# Altium integrated library Microchip PIC16 Part 1.IntLib: 1800 symbols (part 80 of 93)
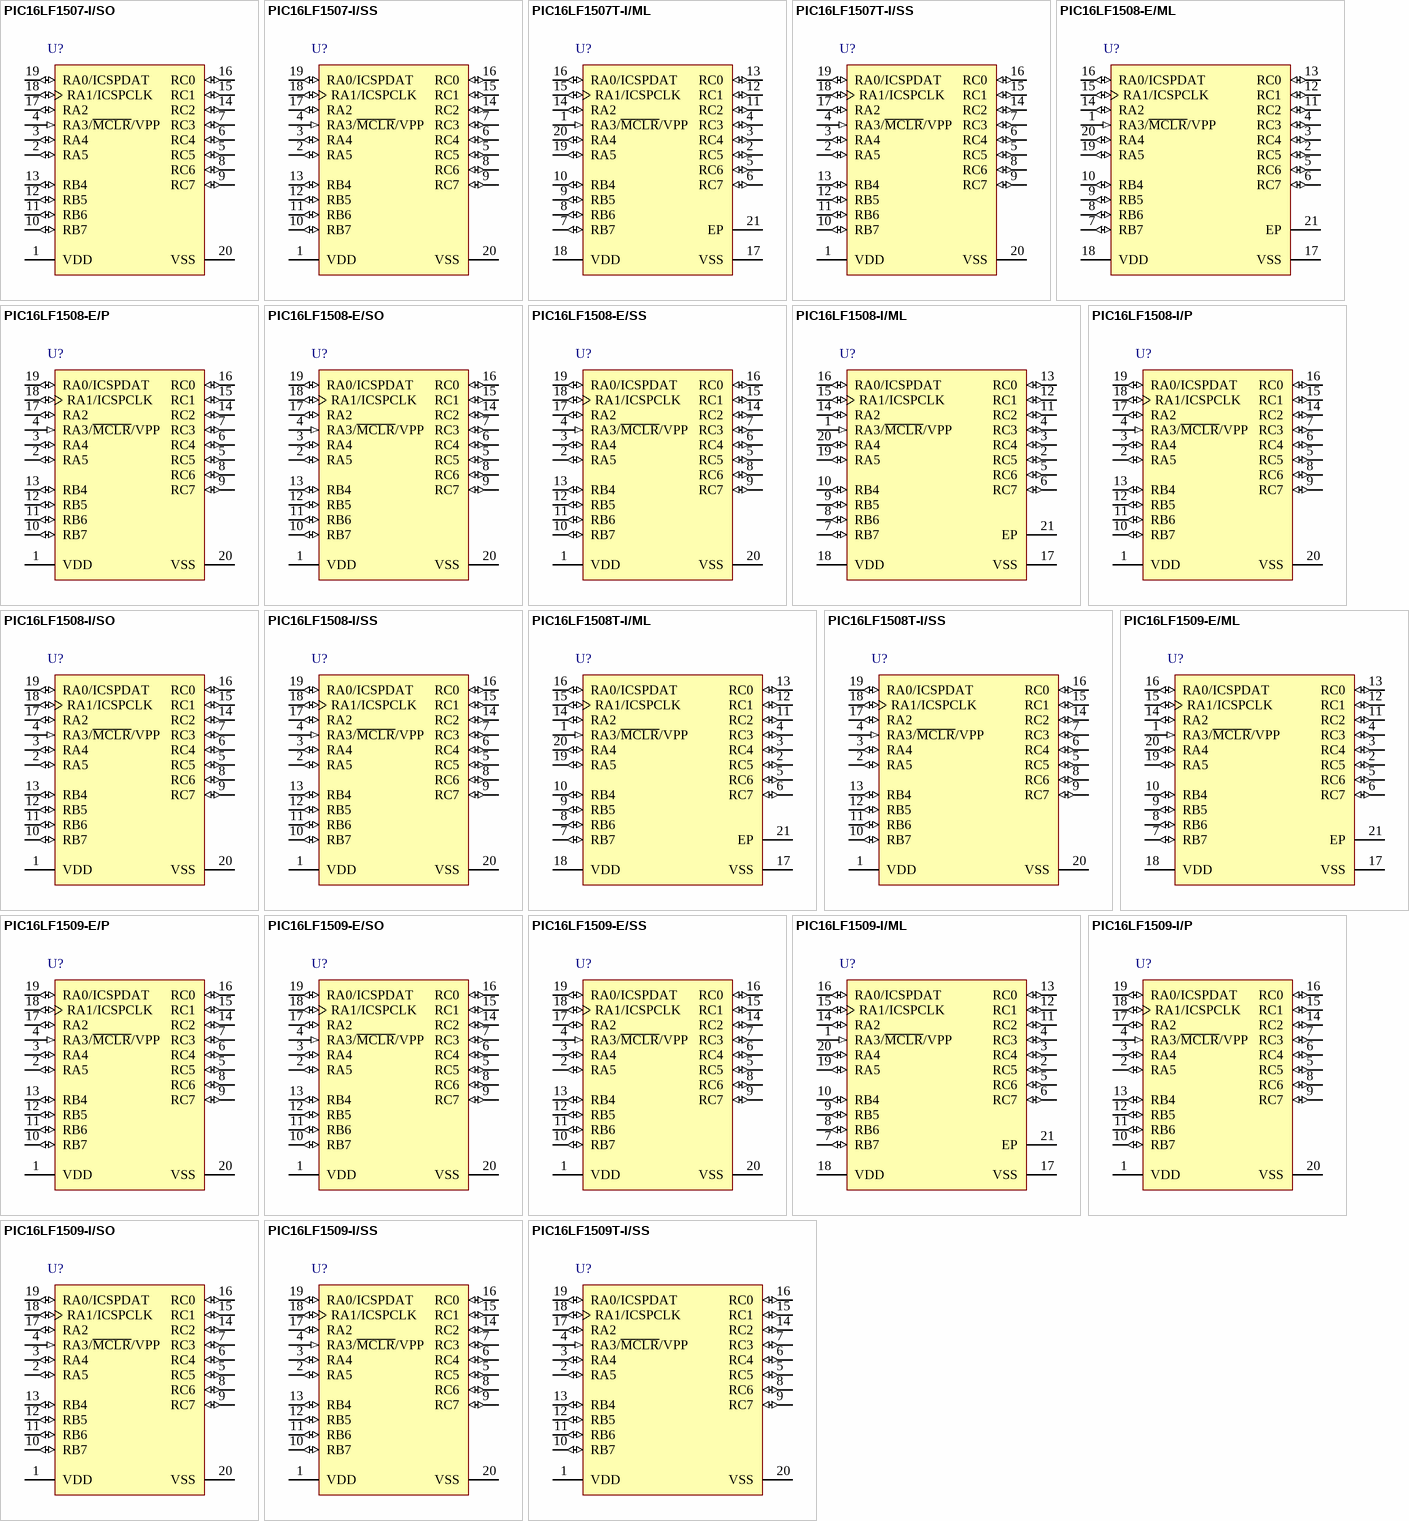
[diagram p178: symbols PIC16LF1507-I/SO to PIC16LF1509T-I/SS]

## PIC16LF1509-I/SS
designator U?
Flash, 8-Bit Microcontroller with nanoWatt XLP Technology, 20 MHz, 17 I/O, -40 to 85 degC, 20-pin SSOP (SS20), Tube; Manufacturer: Microchip; PartNumber: PIC16LF1509-I/SS; # of A/D Channels: 12; Digital Communication: 1 -A/E/USART, 1 -MSSP(SPI/I2C); I/O Pins: 17; Internal Oscillator: 16 MHz, 31 kHz; Max. CPU Speed MHz: 20; Operation Voltage Range: 1.8V - 3.6V; Program Memory KBytes: 14; Program Memory KWords: 8; RAM: 512; Timers: 2 - 8-bit, 1 - 16-bit, 0 - 32-bit; DatasheetVersion: Rev. A; PackageVersion: C04-072B, 12/2012; PackageReference: SSOP-SS20; PackageDescription: 20-Lead Plastic Shrink Small Outline, 5.3 x 7.2 mm Body, 0.65 mm Pitch; Supplier 1: Digi-Key; Supplier Part Number 1: PIC16LF1509-I/SS-ND; Supplier 2: Farnell; Supplier Part Number 2: 2085029; Supplier 3: Newark; Supplier Part Number 3: 64T1073; Supplier 4: Mouser; Supplier Part Number 4: 579-PIC16LF1509-I/SS; Memory Type: Flash; Packing: TUBE; Mounting Technology: Surface Mount; ComponentLink1Description: Datasheet; ComponentLink1URL: http://ww1.microchip.com/downloads/en/DeviceDoc/41609A.pdf; ComponentLink2Description: Package Specification; ComponentLink2URL: http://www.microchip.com/stellent/groups/techpub_sg/documents/packagingspec/en012702.pdf; ComponentLink3Description: URL Link1; ComponentLink3URL: Product URL:http://www.microchip.com/datasheet/PIC16F1509
footprint MCHP-SSOP-SS20_N (SOP, 20-Leads, Body 7.2x5.3mm, Pitch 0.65mm, IPC Medium Density)
footprint MCHP-SSOP-SS20_L (SOP, 20-Leads, Body 7.2x5.3mm, Pitch 0.65mm, IPC High Density)
footprint MCHP-SSOP-SS20_M (SOP, 20-Leads, Body 7.2x5.3mm, Pitch 0.65mm, IPC Low Density)
pins: 1 VDD (power) "Positive supply.", 2 RA5 (io), 3 RA4 (io), 4 RA3/~{MCLR}/VPP (in), 5 RC5 (io), 6 RC4 (io), 7 RC3 (io), 8 RC6 (io), 9 RC7 (io), 10 RB7 (io), 11 RB6 (io), 12 RB5 (io), 13 RB4 (io), 14 RC2 (io), 15 RC1 (io), 16 RC0 (io), 17 RA2 (io), 18 RA1/ICSPCLK (io), 19 RA0/ICSPDAT (io), 20 VSS (power) "Ground reference."

## PIC16LF1509T-I/SS
designator U?
Flash, 8-Bit Microcontroller with nanoWatt XLP Technology, 20 MHz, 17 I/O, -40 to 85 degC, 20-pin SSOP (SS20), Tape and Reel; Manufacturer: Microchip; PartNumber: PIC16LF1509T-I/SS; # of A/D Channels: 12; Digital Communication: 1 -A/E/USART, 1 -MSSP(SPI/I2C); I/O Pins: 17; Internal Oscillator: 16 MHz, 31 kHz; Max. CPU Speed MHz: 20; Operation Voltage Range: 1.8V - 3.6V; Packing: T/R; Program Memory KBytes: 14; Program Memory KWords: 8; RAM: 512; Timers: 2 - 8-bit, 1 - 16-bit, 0 - 32-bit; DatasheetVersion: Rev. A; PackageVersion: C04-072B, 12/2012; PackageReference: SSOP-SS20; PackageDescription: 20-Lead Plastic Shrink Small Outline, 5.3 x 7.2 mm Body, 0.65 mm Pitch; Supplier 1: Digi-Key; Supplier Part Number 1: PIC16LF1509T-I/SS-ND; Supplier 2: Mouser; Supplier Part Number 2: 579-PIC16LF1509TI/SS; Memory Type: Flash; Mounting Technology: Surface Mount; ComponentLink1Description: Datasheet; ComponentLink1URL: http://ww1.microchip.com/downloads/en/DeviceDoc/41609A.pdf; ComponentLink2Description: Package Specification; ComponentLink2URL: http://www.microchip.com/stellent/groups/techpub_sg/documents/packagingspec/en012702.pdf; ComponentLink3Description: URL Link1; ComponentLink3URL: Product URL:http://www.microchip.com/datasheet/PIC16F1509
footprint MCHP-SSOP-SS20_N (SOP, 20-Leads, Body 7.2x5.3mm, Pitch 0.65mm, IPC Medium Density)
footprint MCHP-SSOP-SS20_L (SOP, 20-Leads, Body 7.2x5.3mm, Pitch 0.65mm, IPC High Density)
footprint MCHP-SSOP-SS20_M (SOP, 20-Leads, Body 7.2x5.3mm, Pitch 0.65mm, IPC Low Density)
pins: 1 VDD (power) "Positive supply.", 2 RA5 (io), 3 RA4 (io), 4 RA3/~{MCLR}/VPP (in), 5 RC5 (io), 6 RC4 (io), 7 RC3 (io), 8 RC6 (io), 9 RC7 (io), 10 RB7 (io), 11 RB6 (io), 12 RB5 (io), 13 RB4 (io), 14 RC2 (io), 15 RC1 (io), 16 RC0 (io), 17 RA2 (io), 18 RA1/ICSPCLK (io), 19 RA0/ICSPDAT (io), 20 VSS (power) "Ground reference."

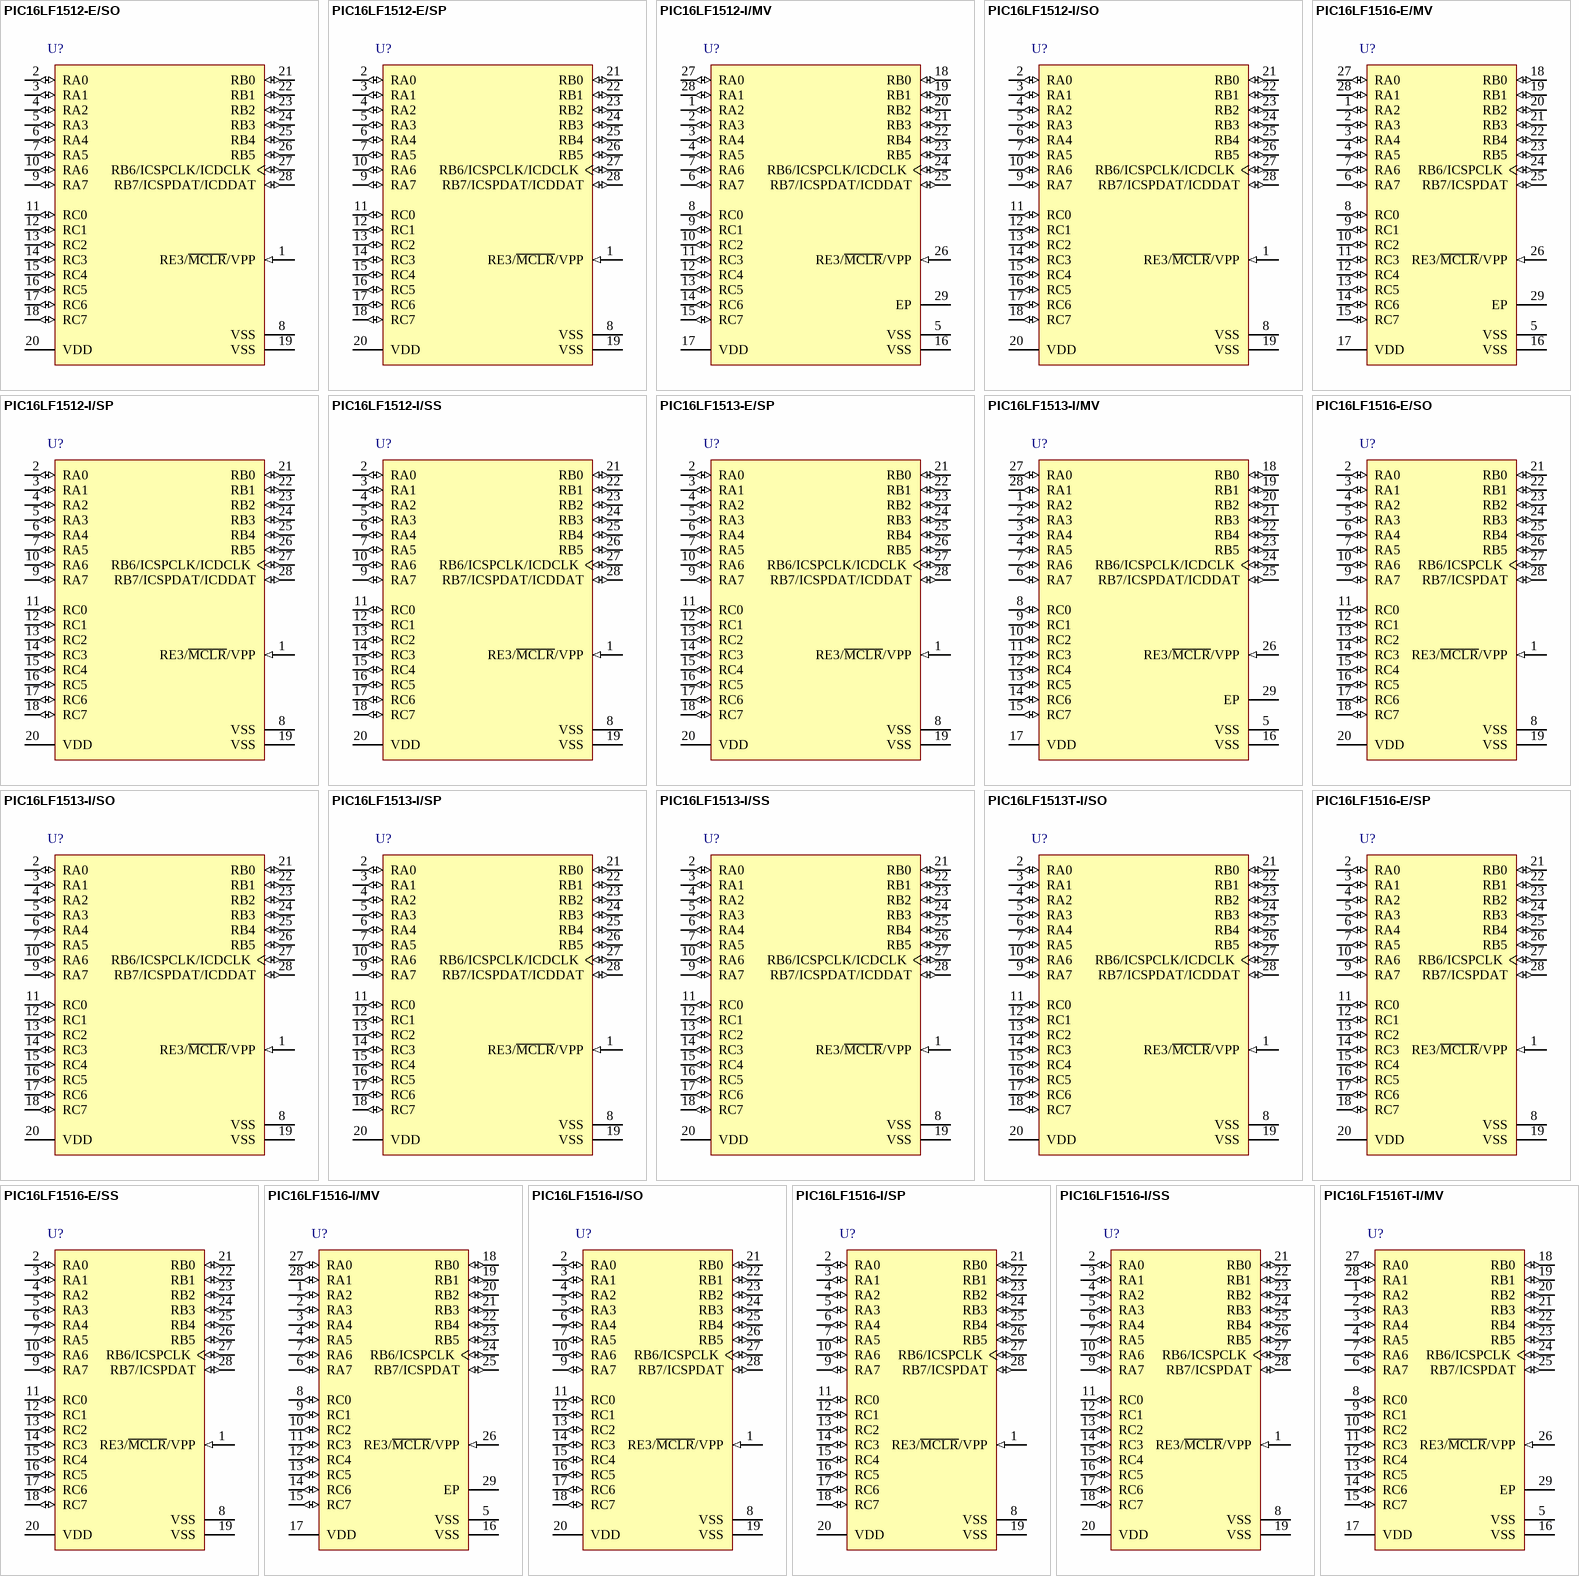
[diagram p83: symbols PIC16LF1512-E/SO to PIC16LF1516T-I/MV]

## PIC16LF1512-E/SO
designator U?
Flash Microcontroller with XLP Technology, 20 MHz, 24 I/O, -40 to 125 degC, 28-pin SOIC (SO28), Tube; Manufacturer: Microchip; PartNumber: PIC16LF1512-E/SO; # of A/D Channels: 17; Digital Communication: 1 -A/E/USART, 1 -MSSP(SPI/I2C); I/O Pins: 24; Internal Oscillator: 16 MHz, 31 kHz; Max. CPU Speed MHz: 20; Operation Voltage Range: 1.8V - 3.6V; Program Memory KBytes: 3.5; Program Memory KWords: 2; RAM: 128; Timers: 2 - 8-bit, 1 - 16-bit, 0 - 32-bit; DatasheetVersion: Rev. B; PackageVersion: C04-052C, 12/2012; PackageReference: SOIC-SO28; PackageDescription: 28-Lead Plastic Small Outline, 17.9 x 7.5 mm Body, 1.27 mm Pitch; Supplier 1: Digi-Key; Supplier Part Number 1: PIC16LF1512-E/SO-ND; Supplier 2: Mouser; Supplier Part Number 2: 579-PIC16LF1512-E/SO; Memory Type: Flash; Packing: TUBE; Mounting Technology: Surface Mount; ComponentLink1Description: Datasheet; ComponentLink1URL: http://ww1.microchip.com/downloads/en/DeviceDoc/41624B.pdf; ComponentLink2Description: Package Specification; ComponentLink2URL: http://www.microchip.com/stellent/groups/techpub_sg/documents/packagingspec/en012702.pdf; ComponentLink3Description: URL Link1; ComponentLink3URL: Product URL:http://www.microchip.com/datasheet/PIC16F1512
footprint MCHP-SOIC-SO28_N (SOIC, 28-Leads, Body 17.9x7.5mm, Pitch 1.27mm, IPC Medium Density)
footprint MCHP-SOIC-SO28_L (SOIC, 28-Leads, Body 17.9x7.5mm, Pitch 1.27mm, IPC High Density)
footprint MCHP-SOIC-SO28_M (SOIC, 28-Leads, Body 17.9x7.5mm, Pitch 1.27mm, IPC Low Density)
pins: 1 RE3/~{MCLR}/VPP (in), 2 RA0 (io), 3 RA1 (io), 4 RA2 (io), 5 RA3 (io), 6 RA4 (io), 7 RA5 (io), 8 VSS (power) "Ground reference.", 9 RA7 (io), 10 RA6 (io), 11 RC0 (io), 12 RC1 (io), 13 RC2 (io), 14 RC3 (io), 15 RC4 (io), 16 RC5 (io), 17 RC6 (io), 18 RC7 (io), 19 VSS (power) "Ground reference.", 20 VDD (power) "Positive supply.", 21 RB0 (io), 22 RB1 (io), 23 RB2 (io), 24 RB3 (io), 25 RB4 (io), 26 RB5 (io), 27 RB6/ICSPCLK/ICDCLK (io), 28 RB7/ICSPDAT/ICDDAT (io)

## PIC16LF1512-E/SP
designator U?
Flash Microcontroller with XLP Technology, 20 MHz, 24 I/O, -40 to 125 degC, 28-pin SPDIP (SP28), Tube; Manufacturer: Microchip; PartNumber: PIC16LF1512-E/SP; # of A/D Channels: 17; Digital Communication: 1 -A/E/USART, 1 -MSSP(SPI/I2C); I/O Pins: 24; Internal Oscillator: 16 MHz, 31 kHz; Max. CPU Speed MHz: 20; Operation Voltage Range: 1.8V - 3.6V; Program Memory KBytes: 3.5; Program Memory KWords: 2; RAM: 128; Timers: 2 - 8-bit, 1 - 16-bit, 0 - 32-bit; DatasheetVersion: Rev. B; PackageVersion: C04-070B, 12/2012; PackageReference: SPDIP-SP28; PackageDescription: 28-Lead Plastic Dual In-Line, 34.86 x 6.79 mm Body, 2.54 mm Pitch; Supplier 1: Digi-Key; Supplier Part Number 1: PIC16LF1512-E/SP-ND; Supplier 2: Mouser; Supplier Part Number 2: 579-PIC16LF1512-E/SP; Memory Type: Flash; Packing: TUBE; Mounting Technology: Through Hole; ComponentLink1Description: Datasheet; ComponentLink1URL: http://ww1.microchip.com/downloads/en/DeviceDoc/41624B.pdf; ComponentLink2Description: Package Specification; ComponentLink2URL: http://www.microchip.com/stellent/groups/techpub_sg/documents/packagingspec/en012702.pdf; ComponentLink3Description: URL Link1; ComponentLink3URL: Product URL:http://www.microchip.com/datasheet/PIC16F1512
footprint MCHP-SPDIP-SP28 (DIP, 28-Leads, Body 34.86x6.79mm, Pitch 2.54mm)
pins: 1 RE3/~{MCLR}/VPP (in), 2 RA0 (io), 3 RA1 (io), 4 RA2 (io), 5 RA3 (io), 6 RA4 (io), 7 RA5 (io), 8 VSS (power) "Ground reference.", 9 RA7 (io), 10 RA6 (io), 11 RC0 (io), 12 RC1 (io), 13 RC2 (io), 14 RC3 (io), 15 RC4 (io), 16 RC5 (io), 17 RC6 (io), 18 RC7 (io), 19 VSS (power) "Ground reference.", 20 VDD (power) "Positive supply.", 21 RB0 (io), 22 RB1 (io), 23 RB2 (io), 24 RB3 (io), 25 RB4 (io), 26 RB5 (io), 27 RB6/ICSPCLK/ICDCLK (io), 28 RB7/ICSPDAT/ICDDAT (io)

## PIC16LF1512-I/MV
designator U?
Flash Microcontroller with XLP Technology, 20 MHz, 24 I/O, -40 to 85 degC, 28-pin UQFN (MV28), Tube; Manufacturer: Microchip; PartNumber: PIC16LF1512-I/MV; # of A/D Channels: 17; Digital Communication: 1 -A/E/USART, 1 -MSSP(SPI/I2C); I/O Pins: 24; Internal Oscillator: 16 MHz, 31 kHz; Max. CPU Speed MHz: 20; Operation Voltage Range: 1.8V - 3.6V; Program Memory KBytes: 3.5; Program Memory KWords: 2; RAM: 128; Timers: 2 - 8-bit, 1 - 16-bit, 0 - 32-bit; DatasheetVersion: Rev. B; PackageVersion: C04-152A, 04/2013; PackageReference: UQFN-MV28; PackageDescription: 28-Lead Plastic Ultra Thin Quad Flat, Body 4 x 4 mm, Pitch 0.4 mm; Supplier 1: Digi-Key; Supplier Part Number 1: PIC16LF1512-I/MV-ND; Supplier 2: Mouser; Supplier Part Number 2: 579-PIC16LF1512-I/MV; Memory Type: Flash; Packing: TUBE; Mounting Technology: Surface Mount; ComponentLink1Description: Datasheet; ComponentLink1URL: http://ww1.microchip.com/downloads/en/DeviceDoc/41624B.pdf; ComponentLink2Description: Package Specification; ComponentLink2URL: http://www.microchip.com/stellent/groups/techpub_sg/documents/packagingspec/en012702.pdf; ComponentLink3Description: URL Link1; ComponentLink3URL: Product URL:http://www.microchip.com/datasheet/PIC16F1512
footprint MCHP-UQFN-MV28_N (QFN, 28-Leads, Body 4x4mm, Pitch 0.4mm, Thermal Pad 2.65x2.65mm, IPC Medium Density)
footprint MCHP-UQFN-MV28_L (QFN, 28-Leads, Body 4x4mm, Pitch 0.4mm, Thermal Pad 2.65x2.65mm, IPC High Density)
footprint MCHP-UQFN-MV28_M (QFN, 28-Leads, Body 4x4mm, Pitch 0.4mm, Thermal Pad 2.65x2.65mm, IPC Low Density)
pins: 1 RA2 (io), 2 RA3 (io), 3 RA4 (io), 4 RA5 (io), 5 VSS (power) "Ground reference.", 6 RA7 (io), 7 RA6 (io), 8 RC0 (io), 9 RC1 (io), 10 RC2 (io), 11 RC3 (io), 12 RC4 (io), 13 RC5 (io), 14 RC6 (io), 15 RC7 (io), 16 VSS (power) "Ground reference.", 17 VDD (power) "Positive supply.", 18 RB0 (io), 19 RB1 (io), 20 RB2 (io), 21 RB3 (io), 22 RB4 (io), 23 RB5 (io), 24 RB6/ICSPCLK/ICDCLK (io), 25 RB7/ICSPDAT/ICDDAT (io), 26 RE3/~{MCLR}/VPP (in), 27 RA0 (io), 28 RA1 (io), 29 EP

## PIC16LF1512-I/SO
designator U?
Flash Microcontroller with XLP Technology, 20 MHz, 24 I/O, -40 to 85 degC, 28-pin SOIC (SO28), Tube; Manufacturer: Microchip; PartNumber: PIC16LF1512-I/SO; # of A/D Channels: 17; Digital Communication: 1 -A/E/USART, 1 -MSSP(SPI/I2C); I/O Pins: 24; Internal Oscillator: 16 MHz, 31 kHz; Max. CPU Speed MHz: 20; Operation Voltage Range: 1.8V - 3.6V; Program Memory KBytes: 3.5; Program Memory KWords: 2; RAM: 128; Timers: 2 - 8-bit, 1 - 16-bit, 0 - 32-bit; DatasheetVersion: Rev. B; PackageVersion: C04-052C, 12/2012; PackageReference: SOIC-SO28; PackageDescription: 28-Lead Plastic Small Outline, 17.9 x 7.5 mm Body, 1.27 mm Pitch; Supplier 1: Digi-Key; Supplier Part Number 1: PIC16LF1512-I/SO-ND; Supplier 2: Mouser; Supplier Part Number 2: 579-PIC16LF1512-I/SO; Memory Type: Flash; Packing: TUBE; Mounting Technology: Surface Mount; ComponentLink1Description: Datasheet; ComponentLink1URL: http://ww1.microchip.com/downloads/en/DeviceDoc/41624B.pdf; ComponentLink2Description: Package Specification; ComponentLink2URL: http://www.microchip.com/stellent/groups/techpub_sg/documents/packagingspec/en012702.pdf; ComponentLink3Description: URL Link1; ComponentLink3URL: Product URL:http://www.microchip.com/datasheet/PIC16F1512
footprint MCHP-SOIC-SO28_N (SOIC, 28-Leads, Body 17.9x7.5mm, Pitch 1.27mm, IPC Medium Density)
footprint MCHP-SOIC-SO28_L (SOIC, 28-Leads, Body 17.9x7.5mm, Pitch 1.27mm, IPC High Density)
footprint MCHP-SOIC-SO28_M (SOIC, 28-Leads, Body 17.9x7.5mm, Pitch 1.27mm, IPC Low Density)
pins: 1 RE3/~{MCLR}/VPP (in), 2 RA0 (io), 3 RA1 (io), 4 RA2 (io), 5 RA3 (io), 6 RA4 (io), 7 RA5 (io), 8 VSS (power) "Ground reference.", 9 RA7 (io), 10 RA6 (io), 11 RC0 (io), 12 RC1 (io), 13 RC2 (io), 14 RC3 (io), 15 RC4 (io), 16 RC5 (io), 17 RC6 (io), 18 RC7 (io), 19 VSS (power) "Ground reference.", 20 VDD (power) "Positive supply.", 21 RB0 (io), 22 RB1 (io), 23 RB2 (io), 24 RB3 (io), 25 RB4 (io), 26 RB5 (io), 27 RB6/ICSPCLK/ICDCLK (io), 28 RB7/ICSPDAT/ICDDAT (io)

## PIC16LF1512-I/SP
designator U?
Flash Microcontroller with XLP Technology, 20 MHz, 24 I/O, -40 to 85 degC, 28-pin SPDIP (SP28), Tube; Manufacturer: Microchip; PartNumber: PIC16LF1512-I/SP; # of A/D Channels: 17; Digital Communication: 1 -A/E/USART, 1 -MSSP(SPI/I2C); I/O Pins: 24; Internal Oscillator: 16 MHz, 31 kHz; Max. CPU Speed MHz: 20; Operation Voltage Range: 1.8V - 3.6V; Program Memory KBytes: 3.5; Program Memory KWords: 2; RAM: 128; Timers: 2 - 8-bit, 1 - 16-bit, 0 - 32-bit; DatasheetVersion: Rev. B; PackageVersion: C04-070B, 12/2012; PackageReference: SPDIP-SP28; PackageDescription: 28-Lead Plastic Dual In-Line, 34.86 x 6.79 mm Body, 2.54 mm Pitch; Supplier 1: Digi-Key; Supplier Part Number 1: PIC16LF1512-I/SP-ND; Supplier 2: Mouser; Supplier Part Number 2: 579-PIC16LF1512-I/SP; Memory Type: Flash; Packing: TUBE; Mounting Technology: Through Hole; ComponentLink1Description: Datasheet; ComponentLink1URL: http://ww1.microchip.com/downloads/en/DeviceDoc/41624B.pdf; ComponentLink2Description: Package Specification; ComponentLink2URL: http://www.microchip.com/stellent/groups/techpub_sg/documents/packagingspec/en012702.pdf; ComponentLink3Description: URL Link1; ComponentLink3URL: Product URL:http://www.microchip.com/datasheet/PIC16F1512
footprint MCHP-SPDIP-SP28 (DIP, 28-Leads, Body 34.86x6.79mm, Pitch 2.54mm)
pins: 1 RE3/~{MCLR}/VPP (in), 2 RA0 (io), 3 RA1 (io), 4 RA2 (io), 5 RA3 (io), 6 RA4 (io), 7 RA5 (io), 8 VSS (power) "Ground reference.", 9 RA7 (io), 10 RA6 (io), 11 RC0 (io), 12 RC1 (io), 13 RC2 (io), 14 RC3 (io), 15 RC4 (io), 16 RC5 (io), 17 RC6 (io), 18 RC7 (io), 19 VSS (power) "Ground reference.", 20 VDD (power) "Positive supply.", 21 RB0 (io), 22 RB1 (io), 23 RB2 (io), 24 RB3 (io), 25 RB4 (io), 26 RB5 (io), 27 RB6/ICSPCLK/ICDCLK (io), 28 RB7/ICSPDAT/ICDDAT (io)

## PIC16LF1512-I/SS
designator U?
Flash Microcontroller with XLP Technology, 20 MHz, 24 I/O, -40 to 85 degC, 28-pin SSOP (SS28), Tube; Manufacturer: Microchip; PartNumber: PIC16LF1512-I/SS; # of A/D Channels: 17; Digital Communication: 1 -A/E/USART, 1 -MSSP(SPI/I2C); I/O Pins: 24; Internal Oscillator: 16 MHz, 31 kHz; Max. CPU Speed MHz: 20; Operation Voltage Range: 1.8V - 3.6V; Program Memory KBytes: 3.5; Program Memory KWords: 2; RAM: 128; Timers: 2 - 8-bit, 1 - 16-bit, 0 - 32-bit; DatasheetVersion: Rev. B; PackageVersion: C04-073B, 12/2012; PackageReference: SSOP-SS28; PackageDescription: 28-Lead Plastic Shrink Small Outline, 10.2 x 5.3 mm Body, 0.65 mm Pitch; Supplier 1: Digi-Key; Supplier Part Number 1: PIC16LF1512-I/SS-ND; Supplier 2: Newark; Supplier Part Number 2: 79T6374; Supplier 3: Mouser; Supplier Part Number 3: 579-PIC16LF1512-I/SS; Memory Type: Flash; Packing: TUBE; Mounting Technology: Surface Mount; ComponentLink1Description: Datasheet; ComponentLink1URL: http://ww1.microchip.com/downloads/en/DeviceDoc/41624B.pdf; ComponentLink2Description: Package Specification; ComponentLink2URL: http://www.microchip.com/stellent/groups/techpub_sg/documents/packagingspec/en012702.pdf; ComponentLink3Description: URL Link1; ComponentLink3URL: Product URL:http://www.microchip.com/datasheet/PIC16F1512
footprint MCHP-SSOP-SS28_N (SOP, 28-Leads, Body 10.2x5.3mm, Pitch 0.65mm, IPC Medium Density)
footprint MCHP-SSOP-SS28_L (SOP, 28-Leads, Body 10.2x5.3mm, Pitch 0.65mm, IPC High Density)
footprint MCHP-SSOP-SS28_M (SOP, 28-Leads, Body 10.2x5.3mm, Pitch 0.65mm, IPC Low Density)
pins: 1 RE3/~{MCLR}/VPP (in), 2 RA0 (io), 3 RA1 (io), 4 RA2 (io), 5 RA3 (io), 6 RA4 (io), 7 RA5 (io), 8 VSS (power) "Ground reference.", 9 RA7 (io), 10 RA6 (io), 11 RC0 (io), 12 RC1 (io), 13 RC2 (io), 14 RC3 (io), 15 RC4 (io), 16 RC5 (io), 17 RC6 (io), 18 RC7 (io), 19 VSS (power) "Ground reference.", 20 VDD (power) "Positive supply.", 21 RB0 (io), 22 RB1 (io), 23 RB2 (io), 24 RB3 (io), 25 RB4 (io), 26 RB5 (io), 27 RB6/ICSPCLK/ICDCLK (io), 28 RB7/ICSPDAT/ICDDAT (io)

## PIC16LF1513-E/SP
designator U?
Flash Microcontroller with XLP Technology, 20 MHz, 24 I/O, -40 to 125 degC, 28-pin SPDIP (SP28), Tube; Manufacturer: Microchip; PartNumber: PIC16LF1513-E/SP; # of A/D Channels: 17; Digital Communication: 1 -A/E/USART, 1 -MSSP(SPI/I2C); I/O Pins: 24; Internal Oscillator: 16 MHz, 31 kHz; Max. CPU Speed MHz: 20; Operation Voltage Range: 1.8V - 3.6V; Program Memory KBytes: 7; Program Memory KWords: 4; RAM: 256; Timers: 2 - 8-bit, 1 - 16-bit, 0 - 32-bit; DatasheetVersion: Rev. B; PackageVersion: C04-070B, 12/2012; PackageReference: SPDIP-SP28; PackageDescription: 28-Lead Plastic Dual In-Line, 34.86 x 6.79 mm Body, 2.54 mm Pitch; Supplier 1: Digi-Key; Supplier Part Number 1: PIC16LF1513-E/SP-ND; Supplier 2: Mouser; Supplier Part Number 2: 579-PIC16LF1513-E/SP; Memory Type: Flash; Packing: TUBE; Mounting Technology: Through Hole; ComponentLink1Description: Datasheet; ComponentLink1URL: http://ww1.microchip.com/downloads/en/DeviceDoc/41624B.pdf; ComponentLink2Description: Package Specification; ComponentLink2URL: http://www.microchip.com/stellent/groups/techpub_sg/documents/packagingspec/en012702.pdf; ComponentLink3Description: URL Link1; ComponentLink3URL: Product URL:http://www.microchip.com/datasheet/PIC16F1513
footprint MCHP-SPDIP-SP28 (DIP, 28-Leads, Body 34.86x6.79mm, Pitch 2.54mm)
pins: 1 RE3/~{MCLR}/VPP (in), 2 RA0 (io), 3 RA1 (io), 4 RA2 (io), 5 RA3 (io), 6 RA4 (io), 7 RA5 (io), 8 VSS (power) "Ground reference.", 9 RA7 (io), 10 RA6 (io), 11 RC0 (io), 12 RC1 (io), 13 RC2 (io), 14 RC3 (io), 15 RC4 (io), 16 RC5 (io), 17 RC6 (io), 18 RC7 (io), 19 VSS (power) "Ground reference.", 20 VDD (power) "Positive supply.", 21 RB0 (io), 22 RB1 (io), 23 RB2 (io), 24 RB3 (io), 25 RB4 (io), 26 RB5 (io), 27 RB6/ICSPCLK/ICDCLK (io), 28 RB7/ICSPDAT/ICDDAT (io)

## PIC16LF1513-I/MV
designator U?
Flash Microcontroller with XLP Technology, 20 MHz, 24 I/O, -40 to 85 degC, 28-pin UQFN (MV28), Tube; Manufacturer: Microchip; PartNumber: PIC16LF1513-I/MV; # of A/D Channels: 17; Digital Communication: 1 -A/E/USART, 1 -MSSP(SPI/I2C); I/O Pins: 24; Internal Oscillator: 16 MHz, 31 kHz; Max. CPU Speed MHz: 20; Operation Voltage Range: 1.8V - 3.6V; Program Memory KBytes: 7; Program Memory KWords: 4; RAM: 256; Timers: 2 - 8-bit, 1 - 16-bit, 0 - 32-bit; DatasheetVersion: Rev. B; PackageVersion: C04-152A, 04/2013; PackageReference: UQFN-MV28; PackageDescription: 28-Lead Plastic Ultra Thin Quad Flat, Body 4 x 4 mm, Pitch 0.4 mm; Supplier 1: Digi-Key; Supplier Part Number 1: PIC16LF1513-I/MV-ND; Supplier 2: Mouser; Supplier Part Number 2: 579-PIC16LF1513-I/MV; Memory Type: Flash; Packing: TUBE; Mounting Technology: Surface Mount; ComponentLink1Description: Datasheet; ComponentLink1URL: http://ww1.microchip.com/downloads/en/DeviceDoc/41624B.pdf; ComponentLink2Description: Package Specification; ComponentLink2URL: http://www.microchip.com/stellent/groups/techpub_sg/documents/packagingspec/en012702.pdf; ComponentLink3Description: URL Link1; ComponentLink3URL: Product URL:http://www.microchip.com/datasheet/PIC16F1513
footprint MCHP-UQFN-MV28_N (QFN, 28-Leads, Body 4x4mm, Pitch 0.4mm, Thermal Pad 2.65x2.65mm, IPC Medium Density)
footprint MCHP-UQFN-MV28_L (QFN, 28-Leads, Body 4x4mm, Pitch 0.4mm, Thermal Pad 2.65x2.65mm, IPC High Density)
footprint MCHP-UQFN-MV28_M (QFN, 28-Leads, Body 4x4mm, Pitch 0.4mm, Thermal Pad 2.65x2.65mm, IPC Low Density)
pins: 1 RA2 (io), 2 RA3 (io), 3 RA4 (io), 4 RA5 (io), 5 VSS (power) "Ground reference.", 6 RA7 (io), 7 RA6 (io), 8 RC0 (io), 9 RC1 (io), 10 RC2 (io), 11 RC3 (io), 12 RC4 (io), 13 RC5 (io), 14 RC6 (io), 15 RC7 (io), 16 VSS (power) "Ground reference.", 17 VDD (power) "Positive supply.", 18 RB0 (io), 19 RB1 (io), 20 RB2 (io), 21 RB3 (io), 22 RB4 (io), 23 RB5 (io), 24 RB6/ICSPCLK/ICDCLK (io), 25 RB7/ICSPDAT/ICDDAT (io), 26 RE3/~{MCLR}/VPP (in), 27 RA0 (io), 28 RA1 (io), 29 EP

## PIC16LF1513-I/SO
designator U?
Flash Microcontroller with XLP Technology, 20 MHz, 24 I/O, -40 to 85 degC, 28-pin SOIC (SO28), Tube; Manufacturer: Microchip; PartNumber: PIC16LF1513-I/SO; # of A/D Channels: 17; Digital Communication: 1 -A/E/USART, 1 -MSSP(SPI/I2C); I/O Pins: 24; Internal Oscillator: 16 MHz, 31 kHz; Max. CPU Speed MHz: 20; Operation Voltage Range: 1.8V - 3.6V; Program Memory KBytes: 7; Program Memory KWords: 4; RAM: 256; Timers: 2 - 8-bit, 1 - 16-bit, 0 - 32-bit; DatasheetVersion: Rev. B; PackageVersion: C04-052C, 12/2012; PackageReference: SOIC-SO28; PackageDescription: 28-Lead Plastic Small Outline, 17.9 x 7.5 mm Body, 1.27 mm Pitch; Supplier 1: Digi-Key; Supplier Part Number 1: PIC16LF1513-I/SO-ND; Supplier 2: Mouser; Supplier Part Number 2: 579-PIC16LF1513-I/SO; Memory Type: Flash; Packing: TUBE; Mounting Technology: Surface Mount; ComponentLink1Description: Datasheet; ComponentLink1URL: http://ww1.microchip.com/downloads/en/DeviceDoc/41624B.pdf; ComponentLink2Description: Package Specification; ComponentLink2URL: http://www.microchip.com/stellent/groups/techpub_sg/documents/packagingspec/en012702.pdf; ComponentLink3Description: URL Link1; ComponentLink3URL: Product URL:http://www.microchip.com/datasheet/PIC16F1513
footprint MCHP-SOIC-SO28_N (SOIC, 28-Leads, Body 17.9x7.5mm, Pitch 1.27mm, IPC Medium Density)
footprint MCHP-SOIC-SO28_L (SOIC, 28-Leads, Body 17.9x7.5mm, Pitch 1.27mm, IPC High Density)
footprint MCHP-SOIC-SO28_M (SOIC, 28-Leads, Body 17.9x7.5mm, Pitch 1.27mm, IPC Low Density)
pins: 1 RE3/~{MCLR}/VPP (in), 2 RA0 (io), 3 RA1 (io), 4 RA2 (io), 5 RA3 (io), 6 RA4 (io), 7 RA5 (io), 8 VSS (power) "Ground reference.", 9 RA7 (io), 10 RA6 (io), 11 RC0 (io), 12 RC1 (io), 13 RC2 (io), 14 RC3 (io), 15 RC4 (io), 16 RC5 (io), 17 RC6 (io), 18 RC7 (io), 19 VSS (power) "Ground reference.", 20 VDD (power) "Positive supply.", 21 RB0 (io), 22 RB1 (io), 23 RB2 (io), 24 RB3 (io), 25 RB4 (io), 26 RB5 (io), 27 RB6/ICSPCLK/ICDCLK (io), 28 RB7/ICSPDAT/ICDDAT (io)

## PIC16LF1513-I/SP
designator U?
Flash Microcontroller with XLP Technology, 20 MHz, 24 I/O, -40 to 85 degC, 28-pin SPDIP (SP28), Tube; Manufacturer: Microchip; PartNumber: PIC16LF1513-I/SP; # of A/D Channels: 17; Digital Communication: 1 -A/E/USART, 1 -MSSP(SPI/I2C); I/O Pins: 24; Internal Oscillator: 16 MHz, 31 kHz; Max. CPU Speed MHz: 20; Operation Voltage Range: 1.8V - 3.6V; Program Memory KBytes: 7; Program Memory KWords: 4; RAM: 256; Timers: 2 - 8-bit, 1 - 16-bit, 0 - 32-bit; DatasheetVersion: Rev. B; PackageVersion: C04-070B, 12/2012; PackageReference: SPDIP-SP28; PackageDescription: 28-Lead Plastic Dual In-Line, 34.86 x 6.79 mm Body, 2.54 mm Pitch; Supplier 1: Digi-Key; Supplier Part Number 1: PIC16LF1513-I/SP-ND; Supplier 2: Mouser; Supplier Part Number 2: 579-PIC16LF1513-I/SP; Memory Type: Flash; Packing: TUBE; Mounting Technology: Through Hole; ComponentLink1Description: Datasheet; ComponentLink1URL: http://ww1.microchip.com/downloads/en/DeviceDoc/41624B.pdf; ComponentLink2Description: Package Specification; ComponentLink2URL: http://www.microchip.com/stellent/groups/techpub_sg/documents/packagingspec/en012702.pdf; ComponentLink3Description: URL Link1; ComponentLink3URL: Product URL:http://www.microchip.com/datasheet/PIC16F1513
footprint MCHP-SPDIP-SP28 (DIP, 28-Leads, Body 34.86x6.79mm, Pitch 2.54mm)
pins: 1 RE3/~{MCLR}/VPP (in), 2 RA0 (io), 3 RA1 (io), 4 RA2 (io), 5 RA3 (io), 6 RA4 (io), 7 RA5 (io), 8 VSS (power) "Ground reference.", 9 RA7 (io), 10 RA6 (io), 11 RC0 (io), 12 RC1 (io), 13 RC2 (io), 14 RC3 (io), 15 RC4 (io), 16 RC5 (io), 17 RC6 (io), 18 RC7 (io), 19 VSS (power) "Ground reference.", 20 VDD (power) "Positive supply.", 21 RB0 (io), 22 RB1 (io), 23 RB2 (io), 24 RB3 (io), 25 RB4 (io), 26 RB5 (io), 27 RB6/ICSPCLK/ICDCLK (io), 28 RB7/ICSPDAT/ICDDAT (io)

## PIC16LF1513-I/SS
designator U?
Flash Microcontroller with XLP Technology, 20 MHz, 24 I/O, -40 to 85 degC, 28-pin SSOP (SS28), Tube; Manufacturer: Microchip; PartNumber: PIC16LF1513-I/SS; # of A/D Channels: 17; Digital Communication: 1 -A/E/USART, 1 -MSSP(SPI/I2C); I/O Pins: 24; Internal Oscillator: 16 MHz, 31 kHz; Max. CPU Speed MHz: 20; Operation Voltage Range: 1.8V - 3.6V; Program Memory KBytes: 7; Program Memory KWords: 4; RAM: 256; Timers: 2 - 8-bit, 1 - 16-bit, 0 - 32-bit; DatasheetVersion: Rev. B; PackageVersion: C04-073B, 12/2012; PackageReference: SSOP-SS28; PackageDescription: 28-Lead Plastic Shrink Small Outline, 10.2 x 5.3 mm Body, 0.65 mm Pitch; Supplier 1: Digi-Key; Supplier Part Number 1: PIC16LF1513-I/SS-ND; Supplier 2: Newark; Supplier Part Number 2: 79T6385; Supplier 3: Mouser; Supplier Part Number 3: 579-PIC16LF1513-I/SS; Memory Type: Flash; Packing: TUBE; Mounting Technology: Surface Mount; ComponentLink1Description: Datasheet; ComponentLink1URL: http://ww1.microchip.com/downloads/en/DeviceDoc/41624B.pdf; ComponentLink2Description: Package Specification; ComponentLink2URL: http://www.microchip.com/stellent/groups/techpub_sg/documents/packagingspec/en012702.pdf; ComponentLink3Description: URL Link1; ComponentLink3URL: Product URL:http://www.microchip.com/datasheet/PIC16F1513
footprint MCHP-SSOP-SS28_N (SOP, 28-Leads, Body 10.2x5.3mm, Pitch 0.65mm, IPC Medium Density)
footprint MCHP-SSOP-SS28_L (SOP, 28-Leads, Body 10.2x5.3mm, Pitch 0.65mm, IPC High Density)
footprint MCHP-SSOP-SS28_M (SOP, 28-Leads, Body 10.2x5.3mm, Pitch 0.65mm, IPC Low Density)
pins: 1 RE3/~{MCLR}/VPP (in), 2 RA0 (io), 3 RA1 (io), 4 RA2 (io), 5 RA3 (io), 6 RA4 (io), 7 RA5 (io), 8 VSS (power) "Ground reference.", 9 RA7 (io), 10 RA6 (io), 11 RC0 (io), 12 RC1 (io), 13 RC2 (io), 14 RC3 (io), 15 RC4 (io), 16 RC5 (io), 17 RC6 (io), 18 RC7 (io), 19 VSS (power) "Ground reference.", 20 VDD (power) "Positive supply.", 21 RB0 (io), 22 RB1 (io), 23 RB2 (io), 24 RB3 (io), 25 RB4 (io), 26 RB5 (io), 27 RB6/ICSPCLK/ICDCLK (io), 28 RB7/ICSPDAT/ICDDAT (io)

## PIC16LF1513T-I/SO
designator U?
Flash Microcontroller with XLP Technology, 20 MHz, 24 I/O, -40 to 85 degC, 28-pin SOIC (SO28), Tape and Reel; Manufacturer: Microchip; PartNumber: PIC16LF1513T-I/SO; # of A/D Channels: 17; Digital Communication: 1 -A/E/USART, 1 -MSSP(SPI/I2C); I/O Pins: 24; Internal Oscillator: 16 MHz, 31 kHz; Max. CPU Speed MHz: 20; Operation Voltage Range: 1.8V - 3.6V; Packing: T/R; Program Memory KBytes: 7; Program Memory KWords: 4; RAM: 256; Timers: 2 - 8-bit, 1 - 16-bit, 0 - 32-bit; DatasheetVersion: Rev. B; PackageVersion: C04-052C, 12/2012; PackageReference: SOIC-SO28; PackageDescription: 28-Lead Plastic Small Outline, 17.9 x 7.5 mm Body, 1.27 mm Pitch; Supplier 1: Digi-Key; Supplier Part Number 1: PIC16LF1513T-I/SO-ND; Supplier 2: Mouser; Supplier Part Number 2: 579-PIC16LF1513TI/SO; Memory Type: Flash; Mounting Technology: Surface Mount; ComponentLink1Description: Datasheet; ComponentLink1URL: http://ww1.microchip.com/downloads/en/DeviceDoc/41624B.pdf; ComponentLink2Description: Package Specification; ComponentLink2URL: http://www.microchip.com/stellent/groups/techpub_sg/documents/packagingspec/en012702.pdf; ComponentLink3Description: URL Link1; ComponentLink3URL: Product URL:http://www.microchip.com/datasheet/PIC16F1513
footprint MCHP-SOIC-SO28_N (SOIC, 28-Leads, Body 17.9x7.5mm, Pitch 1.27mm, IPC Medium Density)
footprint MCHP-SOIC-SO28_L (SOIC, 28-Leads, Body 17.9x7.5mm, Pitch 1.27mm, IPC High Density)
footprint MCHP-SOIC-SO28_M (SOIC, 28-Leads, Body 17.9x7.5mm, Pitch 1.27mm, IPC Low Density)
pins: 1 RE3/~{MCLR}/VPP (in), 2 RA0 (io), 3 RA1 (io), 4 RA2 (io), 5 RA3 (io), 6 RA4 (io), 7 RA5 (io), 8 VSS (power) "Ground reference.", 9 RA7 (io), 10 RA6 (io), 11 RC0 (io), 12 RC1 (io), 13 RC2 (io), 14 RC3 (io), 15 RC4 (io), 16 RC5 (io), 17 RC6 (io), 18 RC7 (io), 19 VSS (power) "Ground reference.", 20 VDD (power) "Positive supply.", 21 RB0 (io), 22 RB1 (io), 23 RB2 (io), 24 RB3 (io), 25 RB4 (io), 26 RB5 (io), 27 RB6/ICSPCLK/ICDCLK (io), 28 RB7/ICSPDAT/ICDDAT (io)

## PIC16LF1516-E/MV
designator U?
Flash Microcontroller with XLP Technology, 20 MHz, 24 I/O, -40 to 125 degC, 28-pin UQFN (MV28), Tube; Manufacturer: Microchip; PartNumber: PIC16LF1516-E/MV; # of A/D Channels: 17; Digital Communication: 1 -A/E/USART, 1 -MSSP(SPI/I2C); I/O Pins: 24; Internal Oscillator: 16 MHz, 31 kHz; Max. CPU Speed MHz: 20; Operation Voltage Range: 1.8V - 3.6V; Program Memory KBytes: 14; Program Memory KWords: 8; RAM: 512; Timers: 2 - 8-bit, 1 - 16-bit; DatasheetVersion: Rev. C; PackageVersion: C04-152A, 04/2013; PackageReference: UQFN-MV28; PackageDescription: 28-Lead Plastic Ultra Thin Quad Flat, Body 4 x 4 mm, Pitch 0.4 mm; Supplier 1: Digi-Key; Supplier Part Number 1: PIC16LF1516-E/MV-ND; Supplier 2: Mouser; Supplier Part Number 2: 579-PIC16LF1516-E/MV; Memory Type: Flash; Packing: TUBE; Mounting Technology: Surface Mount; ComponentLink1Description: Datasheet; ComponentLink1URL: http://ww1.microchip.com/downloads/en/DeviceDoc/41452C.pdf; ComponentLink2Description: Package Specification; ComponentLink2URL: http://www.microchip.com/stellent/groups/techpub_sg/documents/packagingspec/en012702.pdf; ComponentLink3Description: URL Link1; ComponentLink3URL: Product URL:http://www.microchip.com/datasheet/PIC16F1516
footprint MCHP-UQFN-MV28_N (QFN, 28-Leads, Body 4x4mm, Pitch 0.4mm, Thermal Pad 2.65x2.65mm, IPC Medium Density)
footprint MCHP-UQFN-MV28_L (QFN, 28-Leads, Body 4x4mm, Pitch 0.4mm, Thermal Pad 2.65x2.65mm, IPC High Density)
footprint MCHP-UQFN-MV28_M (QFN, 28-Leads, Body 4x4mm, Pitch 0.4mm, Thermal Pad 2.65x2.65mm, IPC Low Density)
pins: 1 RA2 (io), 2 RA3 (io), 3 RA4 (io), 4 RA5 (io), 5 VSS (power) "Ground reference.", 6 RA7 (io), 7 RA6 (io), 8 RC0 (io), 9 RC1 (io), 10 RC2 (io), 11 RC3 (io), 12 RC4 (io), 13 RC5 (io), 14 RC6 (io), 15 RC7 (io), 16 VSS (power) "Ground reference.", 17 VDD (power) "Positive supply.", 18 RB0 (io), 19 RB1 (io), 20 RB2 (io), 21 RB3 (io), 22 RB4 (io), 23 RB5 (io), 24 RB6/ICSPCLK (io), 25 RB7/ICSPDAT (io), 26 RE3/~{MCLR}/VPP (in), 27 RA0 (io), 28 RA1 (io), 29 EP

## PIC16LF1516-E/SO
designator U?
Flash Microcontroller with XLP Technology, 20 MHz, 24 I/O, -40 to 125 degC, 28-pin SOIC (SO28), Tube; Manufacturer: Microchip; PartNumber: PIC16LF1516-E/SO; # of A/D Channels: 17; Digital Communication: 1 -A/E/USART, 1 -MSSP(SPI/I2C); I/O Pins: 24; Internal Oscillator: 16 MHz, 31 kHz; Max. CPU Speed MHz: 20; Operation Voltage Range: 1.8V - 3.6V; Program Memory KBytes: 14; Program Memory KWords: 8; RAM: 512; Timers: 2 - 8-bit, 1 - 16-bit; DatasheetVersion: Rev. C; PackageVersion: C04-052C, 12/2012; PackageReference: SOIC-SO28; PackageDescription: 28-Lead Plastic Small Outline, 17.9 x 7.5 mm Body, 1.27 mm Pitch; Supplier 1: Digi-Key; Supplier Part Number 1: PIC16LF1516-E/SO-ND; Supplier 2: Mouser; Supplier Part Number 2: 579-PIC16LF1516-E/SO; Memory Type: Flash; Packing: TUBE; Mounting Technology: Surface Mount; ComponentLink1Description: Datasheet; ComponentLink1URL: http://ww1.microchip.com/downloads/en/DeviceDoc/41452C.pdf; ComponentLink2Description: Package Specification; ComponentLink2URL: http://www.microchip.com/stellent/groups/techpub_sg/documents/packagingspec/en012702.pdf; ComponentLink3Description: URL Link1; ComponentLink3URL: Product URL:http://www.microchip.com/datasheet/PIC16F1516
footprint MCHP-SOIC-SO28_N (SOIC, 28-Leads, Body 17.9x7.5mm, Pitch 1.27mm, IPC Medium Density)
footprint MCHP-SOIC-SO28_L (SOIC, 28-Leads, Body 17.9x7.5mm, Pitch 1.27mm, IPC High Density)
footprint MCHP-SOIC-SO28_M (SOIC, 28-Leads, Body 17.9x7.5mm, Pitch 1.27mm, IPC Low Density)
pins: 1 RE3/~{MCLR}/VPP (in), 2 RA0 (io), 3 RA1 (io), 4 RA2 (io), 5 RA3 (io), 6 RA4 (io), 7 RA5 (io), 8 VSS (power) "Ground reference.", 9 RA7 (io), 10 RA6 (io), 11 RC0 (io), 12 RC1 (io), 13 RC2 (io), 14 RC3 (io), 15 RC4 (io), 16 RC5 (io), 17 RC6 (io), 18 RC7 (io), 19 VSS (power) "Ground reference.", 20 VDD (power) "Positive supply.", 21 RB0 (io), 22 RB1 (io), 23 RB2 (io), 24 RB3 (io), 25 RB4 (io), 26 RB5 (io), 27 RB6/ICSPCLK (io), 28 RB7/ICSPDAT (io)

## PIC16LF1516-E/SP
designator U?
Flash Microcontroller with XLP Technology, 20 MHz, 24 I/O, -40 to 125 degC, 28-pin SPDIP (SP28), Tube; Manufacturer: Microchip; PartNumber: PIC16LF1516-E/SP; # of A/D Channels: 17; Digital Communication: 1 -A/E/USART, 1 -MSSP(SPI/I2C); I/O Pins: 24; Internal Oscillator: 16 MHz, 31 kHz; Max. CPU Speed MHz: 20; Operation Voltage Range: 1.8V - 3.6V; Program Memory KBytes: 14; Program Memory KWords: 8; RAM: 512; Timers: 2 - 8-bit, 1 - 16-bit; DatasheetVersion: Rev. C; PackageVersion: C04-070B, 12/2012; PackageReference: SPDIP-SP28; PackageDescription: 28-Lead Plastic Dual In-Line, 34.86 x 6.79 mm Body, 2.54 mm Pitch; Supplier 1: Digi-Key; Supplier Part Number 1: PIC16LF1516-E/SP-ND; Supplier 2: Mouser; Supplier Part Number 2: 579-PIC16LF1516-E/SP; Memory Type: Flash; Packing: TUBE; Mounting Technology: Through Hole; ComponentLink1Description: Datasheet; ComponentLink1URL: http://ww1.microchip.com/downloads/en/DeviceDoc/41452C.pdf; ComponentLink2Description: Package Specification; ComponentLink2URL: http://www.microchip.com/stellent/groups/techpub_sg/documents/packagingspec/en012702.pdf; ComponentLink3Description: URL Link1; ComponentLink3URL: Product URL:http://www.microchip.com/datasheet/PIC16F1516
footprint MCHP-SPDIP-SP28 (DIP, 28-Leads, Body 34.86x6.79mm, Pitch 2.54mm)
pins: 1 RE3/~{MCLR}/VPP (in), 2 RA0 (io), 3 RA1 (io), 4 RA2 (io), 5 RA3 (io), 6 RA4 (io), 7 RA5 (io), 8 VSS (power) "Ground reference.", 9 RA7 (io), 10 RA6 (io), 11 RC0 (io), 12 RC1 (io), 13 RC2 (io), 14 RC3 (io), 15 RC4 (io), 16 RC5 (io), 17 RC6 (io), 18 RC7 (io), 19 VSS (power) "Ground reference.", 20 VDD (power) "Positive supply.", 21 RB0 (io), 22 RB1 (io), 23 RB2 (io), 24 RB3 (io), 25 RB4 (io), 26 RB5 (io), 27 RB6/ICSPCLK (io), 28 RB7/ICSPDAT (io)

## PIC16LF1516-E/SS
designator U?
Flash Microcontroller with XLP Technology, 20 MHz, 24 I/O, -40 to 125 degC, 28-pin SSOP (SS28), Tube; Manufacturer: Microchip; PartNumber: PIC16LF1516-E/SS; # of A/D Channels: 17; Digital Communication: 1 -A/E/USART, 1 -MSSP(SPI/I2C); I/O Pins: 24; Internal Oscillator: 16 MHz, 31 kHz; Max. CPU Speed MHz: 20; Operation Voltage Range: 1.8V - 3.6V; Program Memory KBytes: 14; Program Memory KWords: 8; RAM: 512; Timers: 2 - 8-bit, 1 - 16-bit; DatasheetVersion: Rev. C; PackageVersion: C04-073B, 12/2012; PackageReference: SSOP-SS28; PackageDescription: 28-Lead Plastic Shrink Small Outline, 10.2 x 5.3 mm Body, 0.65 mm Pitch; Supplier 1: Digi-Key; Supplier Part Number 1: PIC16LF1516-E/SS-ND; Supplier 2: Mouser; Supplier Part Number 2: 579-PIC16LF1516-E/SS; Memory Type: Flash; Packing: TUBE; Mounting Technology: Surface Mount; ComponentLink1Description: Datasheet; ComponentLink1URL: http://ww1.microchip.com/downloads/en/DeviceDoc/41452C.pdf; ComponentLink2Description: Package Specification; ComponentLink2URL: http://www.microchip.com/stellent/groups/techpub_sg/documents/packagingspec/en012702.pdf; ComponentLink3Description: URL Link1; ComponentLink3URL: Product URL:http://www.microchip.com/datasheet/PIC16F1516
footprint MCHP-SSOP-SS28_N (SOP, 28-Leads, Body 10.2x5.3mm, Pitch 0.65mm, IPC Medium Density)
footprint MCHP-SSOP-SS28_L (SOP, 28-Leads, Body 10.2x5.3mm, Pitch 0.65mm, IPC High Density)
footprint MCHP-SSOP-SS28_M (SOP, 28-Leads, Body 10.2x5.3mm, Pitch 0.65mm, IPC Low Density)
pins: 1 RE3/~{MCLR}/VPP (in), 2 RA0 (io), 3 RA1 (io), 4 RA2 (io), 5 RA3 (io), 6 RA4 (io), 7 RA5 (io), 8 VSS (power) "Ground reference.", 9 RA7 (io), 10 RA6 (io), 11 RC0 (io), 12 RC1 (io), 13 RC2 (io), 14 RC3 (io), 15 RC4 (io), 16 RC5 (io), 17 RC6 (io), 18 RC7 (io), 19 VSS (power) "Ground reference.", 20 VDD (power) "Positive supply.", 21 RB0 (io), 22 RB1 (io), 23 RB2 (io), 24 RB3 (io), 25 RB4 (io), 26 RB5 (io), 27 RB6/ICSPCLK (io), 28 RB7/ICSPDAT (io)

## PIC16LF1516-I/MV
designator U?
Flash Microcontroller with XLP Technology, 20 MHz, 24 I/O, -40 to 85 degC, 28-pin UQFN (MV28), Tube; Manufacturer: Microchip; PartNumber: PIC16LF1516-I/MV; # of A/D Channels: 17; Digital Communication: 1 -A/E/USART, 1 -MSSP(SPI/I2C); I/O Pins: 24; Internal Oscillator: 16 MHz, 31 kHz; Max. CPU Speed MHz: 20; Operation Voltage Range: 1.8V - 3.6V; Program Memory KBytes: 14; Program Memory KWords: 8; RAM: 512; Timers: 2 - 8-bit, 1 - 16-bit; DatasheetVersion: Rev. C; PackageVersion: C04-152A, 04/2013; PackageReference: UQFN-MV28; PackageDescription: 28-Lead Plastic Ultra Thin Quad Flat, Body 4 x 4 mm, Pitch 0.4 mm; Supplier 1: Digi-Key; Supplier Part Number 1: PIC16LF1516-I/MV-ND; Supplier 2: Farnell; Supplier Part Number 2: 1898777; Supplier 3: Newark; Supplier Part Number 3: 91R3026; Supplier 4: Mouser; Supplier Part Number 4: 579-PIC16LF1516-I/MV; Memory Type: Flash; Packing: TUBE; Mounting Technology: Surface Mount; ComponentLink1Description: Datasheet; ComponentLink1URL: http://ww1.microchip.com/downloads/en/DeviceDoc/41452C.pdf; ComponentLink2Description: Package Specification; ComponentLink2URL: http://www.microchip.com/stellent/groups/techpub_sg/documents/packagingspec/en012702.pdf; ComponentLink3Description: URL Link1; ComponentLink3URL: Product URL:http://www.microchip.com/datasheet/PIC16F1516
footprint MCHP-UQFN-MV28_N (QFN, 28-Leads, Body 4x4mm, Pitch 0.4mm, Thermal Pad 2.65x2.65mm, IPC Medium Density)
footprint MCHP-UQFN-MV28_L (QFN, 28-Leads, Body 4x4mm, Pitch 0.4mm, Thermal Pad 2.65x2.65mm, IPC High Density)
footprint MCHP-UQFN-MV28_M (QFN, 28-Leads, Body 4x4mm, Pitch 0.4mm, Thermal Pad 2.65x2.65mm, IPC Low Density)
pins: 1 RA2 (io), 2 RA3 (io), 3 RA4 (io), 4 RA5 (io), 5 VSS (power) "Ground reference.", 6 RA7 (io), 7 RA6 (io), 8 RC0 (io), 9 RC1 (io), 10 RC2 (io), 11 RC3 (io), 12 RC4 (io), 13 RC5 (io), 14 RC6 (io), 15 RC7 (io), 16 VSS (power) "Ground reference.", 17 VDD (power) "Positive supply.", 18 RB0 (io), 19 RB1 (io), 20 RB2 (io), 21 RB3 (io), 22 RB4 (io), 23 RB5 (io), 24 RB6/ICSPCLK (io), 25 RB7/ICSPDAT (io), 26 RE3/~{MCLR}/VPP (in), 27 RA0 (io), 28 RA1 (io), 29 EP

## PIC16LF1516-I/SO
designator U?
Flash Microcontroller with XLP Technology, 20 MHz, 24 I/O, -40 to 85 degC, 28-pin SOIC (SO28), Tube; Manufacturer: Microchip; PartNumber: PIC16LF1516-I/SO; # of A/D Channels: 17; Digital Communication: 1 -A/E/USART, 1 -MSSP(SPI/I2C); I/O Pins: 24; Internal Oscillator: 16 MHz, 31 kHz; Max. CPU Speed MHz: 20; Operation Voltage Range: 1.8V - 3.6V; Program Memory KBytes: 14; Program Memory KWords: 8; RAM: 512; Timers: 2 - 8-bit, 1 - 16-bit; DatasheetVersion: Rev. C; PackageVersion: C04-052C, 12/2012; PackageReference: SOIC-SO28; PackageDescription: 28-Lead Plastic Small Outline, 17.9 x 7.5 mm Body, 1.27 mm Pitch; Supplier 1: Digi-Key; Supplier Part Number 1: PIC16LF1516-I/SO-ND; Supplier 2: Farnell; Supplier Part Number 2: 1898778; Supplier 3: Newark; Supplier Part Number 3: 91R3027; Supplier 4: Mouser; Supplier Part Number 4: 579-PIC16LF1516-I/SO; Memory Type: Flash; Packing: TUBE; Mounting Technology: Surface Mount; ComponentLink1Description: Datasheet; ComponentLink1URL: http://ww1.microchip.com/downloads/en/DeviceDoc/41452C.pdf; ComponentLink2Description: Package Specification; ComponentLink2URL: http://www.microchip.com/stellent/groups/techpub_sg/documents/packagingspec/en012702.pdf; ComponentLink3Description: URL Link1; ComponentLink3URL: Product URL:http://www.microchip.com/datasheet/PIC16F1516
footprint MCHP-SOIC-SO28_N (SOIC, 28-Leads, Body 17.9x7.5mm, Pitch 1.27mm, IPC Medium Density)
footprint MCHP-SOIC-SO28_L (SOIC, 28-Leads, Body 17.9x7.5mm, Pitch 1.27mm, IPC High Density)
footprint MCHP-SOIC-SO28_M (SOIC, 28-Leads, Body 17.9x7.5mm, Pitch 1.27mm, IPC Low Density)
pins: 1 RE3/~{MCLR}/VPP (in), 2 RA0 (io), 3 RA1 (io), 4 RA2 (io), 5 RA3 (io), 6 RA4 (io), 7 RA5 (io), 8 VSS (power) "Ground reference.", 9 RA7 (io), 10 RA6 (io), 11 RC0 (io), 12 RC1 (io), 13 RC2 (io), 14 RC3 (io), 15 RC4 (io), 16 RC5 (io), 17 RC6 (io), 18 RC7 (io), 19 VSS (power) "Ground reference.", 20 VDD (power) "Positive supply.", 21 RB0 (io), 22 RB1 (io), 23 RB2 (io), 24 RB3 (io), 25 RB4 (io), 26 RB5 (io), 27 RB6/ICSPCLK (io), 28 RB7/ICSPDAT (io)

## PIC16LF1516-I/SP
designator U?
Flash Microcontroller with XLP Technology, 20 MHz, 24 I/O, -40 to 85 degC, 28-pin SPDIP (SP28), Tube; Manufacturer: Microchip; PartNumber: PIC16LF1516-I/SP; # of A/D Channels: 17; Digital Communication: 1 -A/E/USART, 1 -MSSP(SPI/I2C); I/O Pins: 24; Internal Oscillator: 16 MHz, 31 kHz; Max. CPU Speed MHz: 20; Operation Voltage Range: 1.8V - 3.6V; Program Memory KBytes: 14; Program Memory KWords: 8; RAM: 512; Timers: 2 - 8-bit, 1 - 16-bit; DatasheetVersion: Rev. C; PackageVersion: C04-070B, 12/2012; PackageReference: SPDIP-SP28; PackageDescription: 28-Lead Plastic Dual In-Line, 34.86 x 6.79 mm Body, 2.54 mm Pitch; Supplier 1: Digi-Key; Supplier Part Number 1: PIC16LF1516-I/SP-ND; Supplier 2: Farnell; Supplier Part Number 2: 1898779; Supplier 3: Newark; Supplier Part Number 3: 91R3028; Supplier 4: Mouser; Supplier Part Number 4: 579-PIC16LF1516-I/SP; Memory Type: Flash; Packing: TUBE; Mounting Technology: Through Hole; ComponentLink1Description: Datasheet; ComponentLink1URL: http://ww1.microchip.com/downloads/en/DeviceDoc/41452C.pdf; ComponentLink2Description: Package Specification; ComponentLink2URL: http://www.microchip.com/stellent/groups/techpub_sg/documents/packagingspec/en012702.pdf; ComponentLink3Description: URL Link1; ComponentLink3URL: Product URL:http://www.microchip.com/datasheet/PIC16F1516
footprint MCHP-SPDIP-SP28 (DIP, 28-Leads, Body 34.86x6.79mm, Pitch 2.54mm)
pins: 1 RE3/~{MCLR}/VPP (in), 2 RA0 (io), 3 RA1 (io), 4 RA2 (io), 5 RA3 (io), 6 RA4 (io), 7 RA5 (io), 8 VSS (power) "Ground reference.", 9 RA7 (io), 10 RA6 (io), 11 RC0 (io), 12 RC1 (io), 13 RC2 (io), 14 RC3 (io), 15 RC4 (io), 16 RC5 (io), 17 RC6 (io), 18 RC7 (io), 19 VSS (power) "Ground reference.", 20 VDD (power) "Positive supply.", 21 RB0 (io), 22 RB1 (io), 23 RB2 (io), 24 RB3 (io), 25 RB4 (io), 26 RB5 (io), 27 RB6/ICSPCLK (io), 28 RB7/ICSPDAT (io)

## PIC16LF1516-I/SS
designator U?
Flash Microcontroller with XLP Technology, 20 MHz, 24 I/O, -40 to 85 degC, 28-pin SSOP (SS28), Tube; Manufacturer: Microchip; PartNumber: PIC16LF1516-I/SS; # of A/D Channels: 17; Digital Communication: 1 -A/E/USART, 1 -MSSP(SPI/I2C); I/O Pins: 24; Internal Oscillator: 16 MHz, 31 kHz; Max. CPU Speed MHz: 20; Operation Voltage Range: 1.8V - 3.6V; Program Memory KBytes: 14; Program Memory KWords: 8; RAM: 512; Timers: 2 - 8-bit, 1 - 16-bit; DatasheetVersion: Rev. C; PackageVersion: C04-073B, 12/2012; PackageReference: SSOP-SS28; PackageDescription: 28-Lead Plastic Shrink Small Outline, 10.2 x 5.3 mm Body, 0.65 mm Pitch; Supplier 1: Digi-Key; Supplier Part Number 1: PIC16LF1516-I/SS-ND; Supplier 2: Farnell; Supplier Part Number 2: 1898780; Supplier 3: Newark; Supplier Part Number 3: 91R3029; Supplier 4: Mouser; Supplier Part Number 4: 579-PIC16LF1516-I/SS; Memory Type: Flash; Packing: TUBE; Mounting Technology: Surface Mount; ComponentLink1Description: Datasheet; ComponentLink1URL: http://ww1.microchip.com/downloads/en/DeviceDoc/41452C.pdf; ComponentLink2Description: Package Specification; ComponentLink2URL: http://www.microchip.com/stellent/groups/techpub_sg/documents/packagingspec/en012702.pdf; ComponentLink3Description: URL Link1; ComponentLink3URL: Product URL:http://www.microchip.com/datasheet/PIC16F1516
footprint MCHP-SSOP-SS28_N (SOP, 28-Leads, Body 10.2x5.3mm, Pitch 0.65mm, IPC Medium Density)
footprint MCHP-SSOP-SS28_L (SOP, 28-Leads, Body 10.2x5.3mm, Pitch 0.65mm, IPC High Density)
footprint MCHP-SSOP-SS28_M (SOP, 28-Leads, Body 10.2x5.3mm, Pitch 0.65mm, IPC Low Density)
pins: 1 RE3/~{MCLR}/VPP (in), 2 RA0 (io), 3 RA1 (io), 4 RA2 (io), 5 RA3 (io), 6 RA4 (io), 7 RA5 (io), 8 VSS (power) "Ground reference.", 9 RA7 (io), 10 RA6 (io), 11 RC0 (io), 12 RC1 (io), 13 RC2 (io), 14 RC3 (io), 15 RC4 (io), 16 RC5 (io), 17 RC6 (io), 18 RC7 (io), 19 VSS (power) "Ground reference.", 20 VDD (power) "Positive supply.", 21 RB0 (io), 22 RB1 (io), 23 RB2 (io), 24 RB3 (io), 25 RB4 (io), 26 RB5 (io), 27 RB6/ICSPCLK (io), 28 RB7/ICSPDAT (io)

## PIC16LF1516T-I/MV
designator U?
Flash Microcontroller with XLP Technology, 20 MHz, 24 I/O, -40 to 85 degC, 28-pin UQFN (MV28), Tape and Reel; Manufacturer: Microchip; PartNumber: PIC16LF1516T-I/MV; # of A/D Channels: 17; Digital Communication: 1 -A/E/USART, 1 -MSSP(SPI/I2C); I/O Pins: 24; Internal Oscillator: 16 MHz, 31 kHz; Max. CPU Speed MHz: 20; Operation Voltage Range: 1.8V - 3.6V; Packing: T/R; Program Memory KBytes: 14; Program Memory KWords: 8; RAM: 512; Timers: 2 - 8-bit, 1 - 16-bit; DatasheetVersion: Rev. C; PackageVersion: C04-152A, 04/2013; PackageReference: UQFN-MV28; PackageDescription: 28-Lead Plastic Ultra Thin Quad Flat, Body 4 x 4 mm, Pitch 0.4 mm; Supplier 1: Digi-Key; Supplier Part Number 1: PIC16LF1516T-I/MV-ND; Supplier 2: Mouser; Supplier Part Number 2: 579-PIC16LF1516TI/MV; Memory Type: Flash; Mounting Technology: Surface Mount; ComponentLink1Description: Datasheet; ComponentLink1URL: http://ww1.microchip.com/downloads/en/DeviceDoc/41452C.pdf; ComponentLink2Description: Package Specification; ComponentLink2URL: http://www.microchip.com/stellent/groups/techpub_sg/documents/packagingspec/en012702.pdf; ComponentLink3Description: URL Link1; ComponentLink3URL: Product URL:http://www.microchip.com/datasheet/PIC16F1516
footprint MCHP-UQFN-MV28_N (QFN, 28-Leads, Body 4x4mm, Pitch 0.4mm, Thermal Pad 2.65x2.65mm, IPC Medium Density)
footprint MCHP-UQFN-MV28_L (QFN, 28-Leads, Body 4x4mm, Pitch 0.4mm, Thermal Pad 2.65x2.65mm, IPC High Density)
footprint MCHP-UQFN-MV28_M (QFN, 28-Leads, Body 4x4mm, Pitch 0.4mm, Thermal Pad 2.65x2.65mm, IPC Low Density)
pins: 1 RA2 (io), 2 RA3 (io), 3 RA4 (io), 4 RA5 (io), 5 VSS (power) "Ground reference.", 6 RA7 (io), 7 RA6 (io), 8 RC0 (io), 9 RC1 (io), 10 RC2 (io), 11 RC3 (io), 12 RC4 (io), 13 RC5 (io), 14 RC6 (io), 15 RC7 (io), 16 VSS (power) "Ground reference.", 17 VDD (power) "Positive supply.", 18 RB0 (io), 19 RB1 (io), 20 RB2 (io), 21 RB3 (io), 22 RB4 (io), 23 RB5 (io), 24 RB6/ICSPCLK (io), 25 RB7/ICSPDAT (io), 26 RE3/~{MCLR}/VPP (in), 27 RA0 (io), 28 RA1 (io), 29 EP

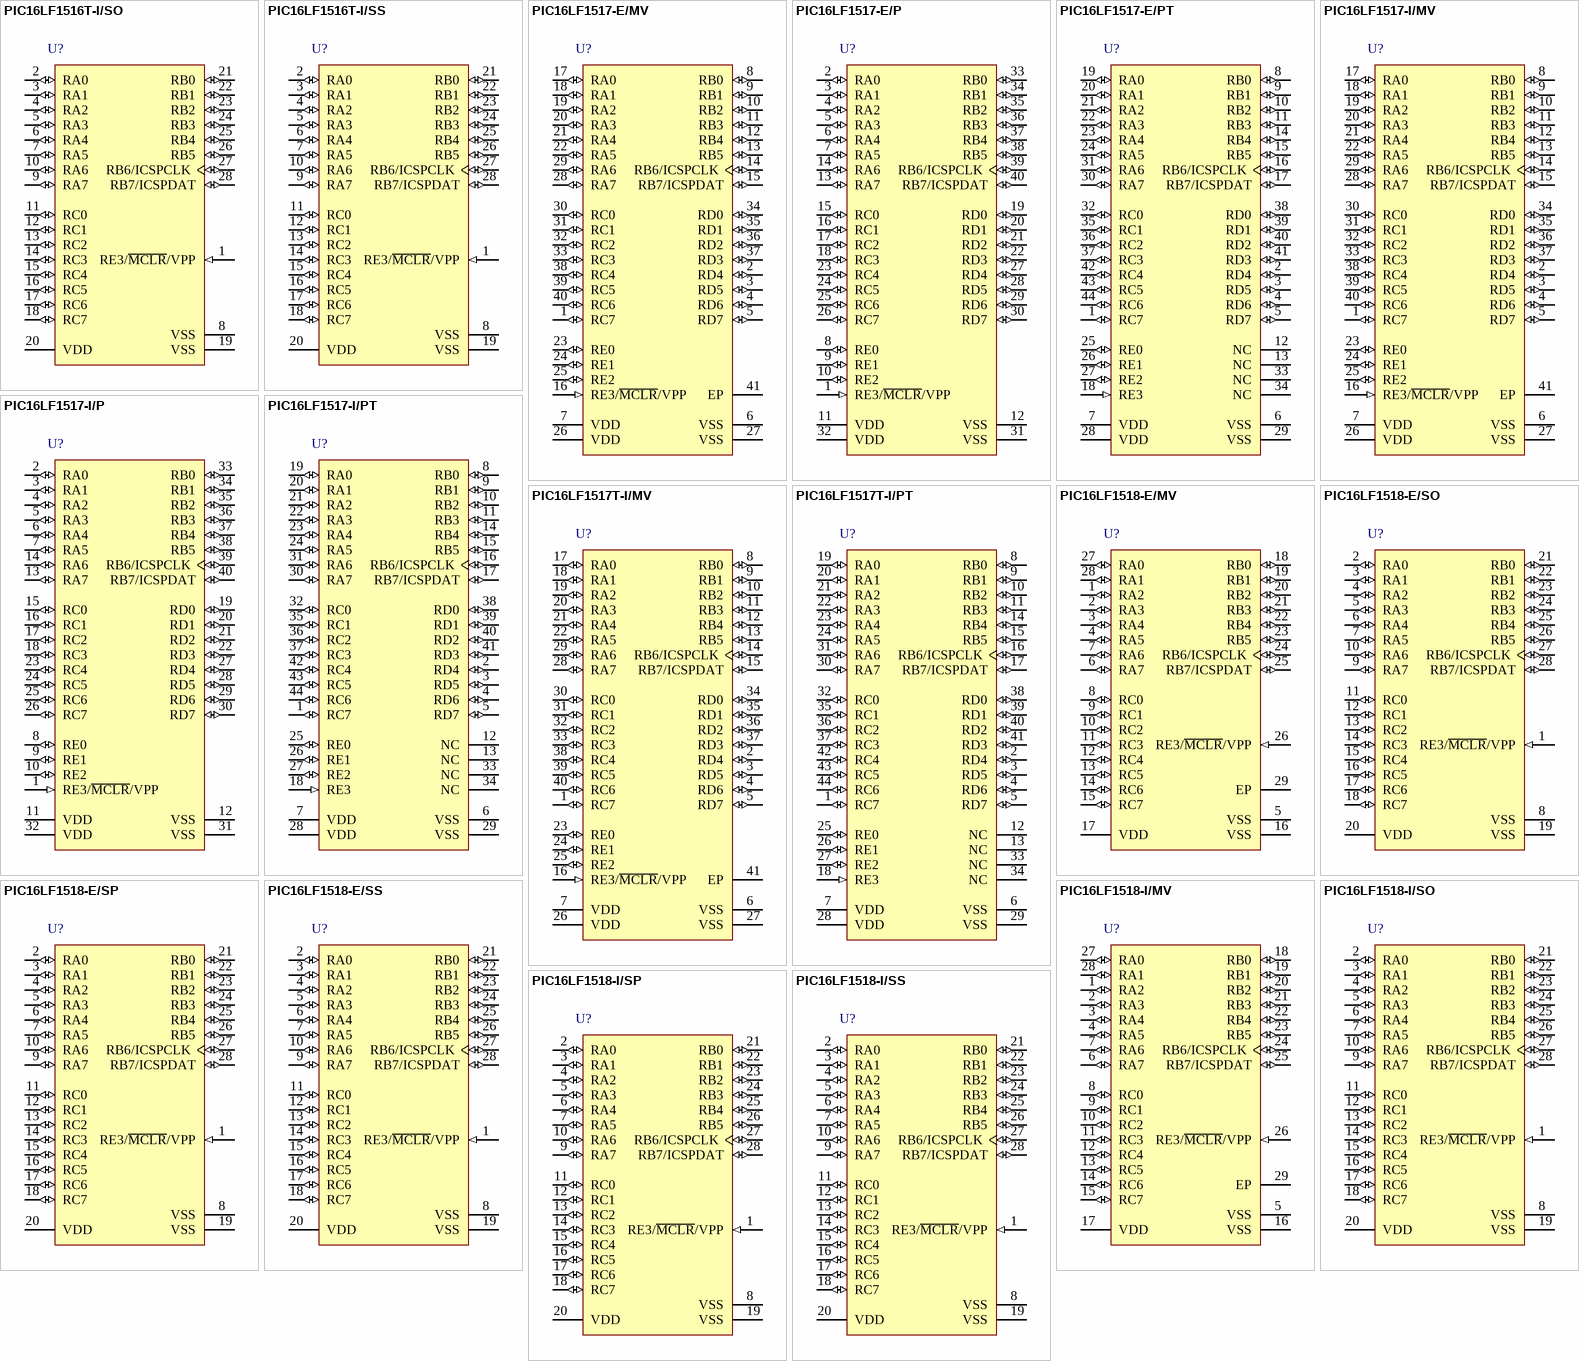
[diagram p84: symbols PIC16LF1516T-I/SO to PIC16LF1518-I/SS]

## PIC16LF1516T-I/SO
designator U?
Flash Microcontroller with XLP Technology, 20 MHz, 24 I/O, -40 to 85 degC, 28-pin SOIC (SO28), Tape and Reel; Manufacturer: Microchip; PartNumber: PIC16LF1516T-I/SO; # of A/D Channels: 17; Digital Communication: 1 -A/E/USART, 1 -MSSP(SPI/I2C); I/O Pins: 24; Internal Oscillator: 16 MHz, 32 kHz; Max. CPU Speed MHz: 20; Operation Voltage Range: 1.8V - 3.6V; Packing: T/R; Program Memory KBytes: 14; Program Memory KWords: 8; RAM: 512; Timers: 2 - 8-bit, 1 - 16-bit; DatasheetVersion: Rev. C; PackageVersion: C04-052C, 12/2012; PackageReference: SOIC-SO28; PackageDescription: 28-Lead Plastic Small Outline, 17.9 x 7.5 mm Body, 1.27 mm Pitch; Supplier 1: Digi-Key; Supplier Part Number 1: PIC16LF1516T-I/SO-ND; Supplier 2: Mouser; Supplier Part Number 2: 579-PIC16LF1516TI/SO; Memory Type: Flash; Mounting Technology: Surface Mount; ComponentLink1Description: Datasheet; ComponentLink1URL: http://ww1.microchip.com/downloads/en/DeviceDoc/41452C.pdf; ComponentLink2Description: Package Specification; ComponentLink2URL: http://www.microchip.com/stellent/groups/techpub_sg/documents/packagingspec/en012702.pdf; ComponentLink3Description: URL Link1; ComponentLink3URL: Product URL:http://www.microchip.com/datasheet/PIC16F1516
footprint MCHP-SOIC-SO28_N (SOIC, 28-Leads, Body 17.9x7.5mm, Pitch 1.27mm, IPC Medium Density)
footprint MCHP-SOIC-SO28_L (SOIC, 28-Leads, Body 17.9x7.5mm, Pitch 1.27mm, IPC High Density)
footprint MCHP-SOIC-SO28_M (SOIC, 28-Leads, Body 17.9x7.5mm, Pitch 1.27mm, IPC Low Density)
pins: 1 RE3/~{MCLR}/VPP (in), 2 RA0 (io), 3 RA1 (io), 4 RA2 (io), 5 RA3 (io), 6 RA4 (io), 7 RA5 (io), 8 VSS (power) "Ground reference.", 9 RA7 (io), 10 RA6 (io), 11 RC0 (io), 12 RC1 (io), 13 RC2 (io), 14 RC3 (io), 15 RC4 (io), 16 RC5 (io), 17 RC6 (io), 18 RC7 (io), 19 VSS (power) "Ground reference.", 20 VDD (power) "Positive supply.", 21 RB0 (io), 22 RB1 (io), 23 RB2 (io), 24 RB3 (io), 25 RB4 (io), 26 RB5 (io), 27 RB6/ICSPCLK (io), 28 RB7/ICSPDAT (io)

## PIC16LF1516T-I/SS
designator U?
Flash Microcontroller with XLP Technology, 20 MHz, 24 I/O, -40 to 85 degC, 28-pin SSOP (SS28), Tape and Reel; Manufacturer: Microchip; PartNumber: PIC16LF1516T-I/SS; # of A/D Channels: 17; Digital Communication: 1 -A/E/USART, 1 -MSSP(SPI/I2C); I/O Pins: 24; Internal Oscillator: 16 MHz, 31 kHz; Max. CPU Speed MHz: 20; Operation Voltage Range: 1.8V - 3.6V; Packing: T/R; Program Memory KBytes: 14; Program Memory KWords: 8; RAM: 512; Timers: 2 - 8-bit, 1 - 16-bit; DatasheetVersion: Rev. C; PackageVersion: C04-073B, 12/2012; PackageReference: SSOP-SS28; PackageDescription: 28-Lead Plastic Shrink Small Outline, 10.2 x 5.3 mm Body, 0.65 mm Pitch; Supplier 1: Digi-Key; Supplier Part Number 1: PIC16LF1516T-I/SS-ND; Supplier 2: Mouser; Supplier Part Number 2: 579-PIC16LF1516TI/SS; Memory Type: Flash; Mounting Technology: Surface Mount; ComponentLink1Description: Datasheet; ComponentLink1URL: http://ww1.microchip.com/downloads/en/DeviceDoc/41452C.pdf; ComponentLink2Description: Package Specification; ComponentLink2URL: http://www.microchip.com/stellent/groups/techpub_sg/documents/packagingspec/en012702.pdf; ComponentLink3Description: URL Link1; ComponentLink3URL: Product URL:http://www.microchip.com/datasheet/PIC16F1516
footprint MCHP-SSOP-SS28_N (SOP, 28-Leads, Body 10.2x5.3mm, Pitch 0.65mm, IPC Medium Density)
footprint MCHP-SSOP-SS28_L (SOP, 28-Leads, Body 10.2x5.3mm, Pitch 0.65mm, IPC High Density)
footprint MCHP-SSOP-SS28_M (SOP, 28-Leads, Body 10.2x5.3mm, Pitch 0.65mm, IPC Low Density)
pins: 1 RE3/~{MCLR}/VPP (in), 2 RA0 (io), 3 RA1 (io), 4 RA2 (io), 5 RA3 (io), 6 RA4 (io), 7 RA5 (io), 8 VSS (power) "Ground reference.", 9 RA7 (io), 10 RA6 (io), 11 RC0 (io), 12 RC1 (io), 13 RC2 (io), 14 RC3 (io), 15 RC4 (io), 16 RC5 (io), 17 RC6 (io), 18 RC7 (io), 19 VSS (power) "Ground reference.", 20 VDD (power) "Positive supply.", 21 RB0 (io), 22 RB1 (io), 23 RB2 (io), 24 RB3 (io), 25 RB4 (io), 26 RB5 (io), 27 RB6/ICSPCLK (io), 28 RB7/ICSPDAT (io)